# Altium schematic symbol library 78L.SchLib: 1 symbol
Pins are listed as number, name and electrical type; pins without a type are passive.

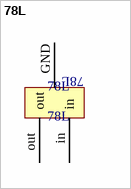
[diagram p0: symbol 78L]

## 78L
designator 78L
footprint 78L
pins: GND, in, out